# Altium footprint library PCB - CONNECTOR - MOLEX - MOLEX 0768290104.PcbLib: 1 footprints
Each footprint in its own frame and in the unit in brackets; x right, y up, seen from the top. Pads: shape width x height; smd on the part's side, far side on the other; paste and mask are expansions set on the pad; w line width, h text height; cw(c..) or ccw(c..) is an arc to the next point about the centre after c.
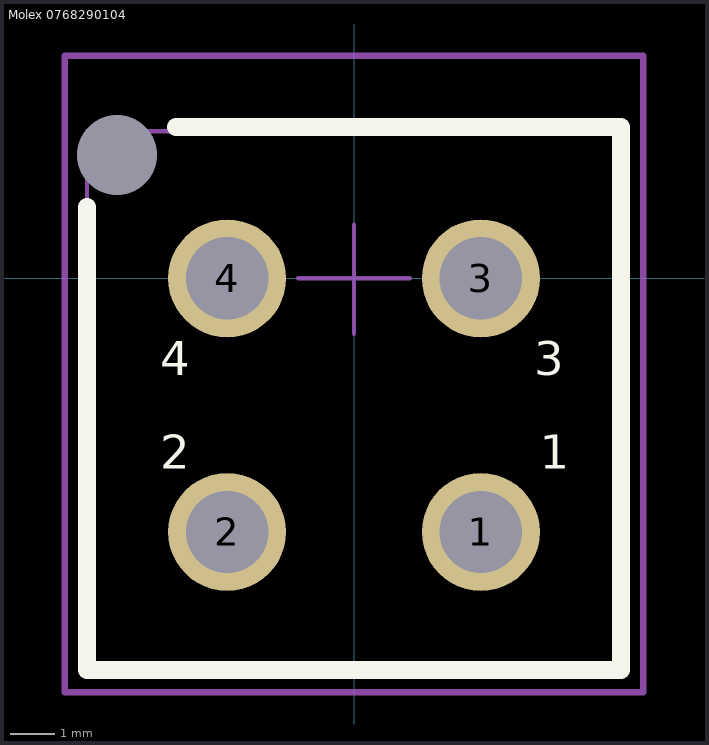
[diagram p0: the footprint, top view; thin cyan lines are the x and y axes]

## Molex 0768290104 [mm]
height 14.8
pads (5):
  round 2.65 hole 1.85 mask+0.1: 1(2.85,-5.7) 2(-2.85,-5.7) 3(2.85,0) 4(-2.85,0)
  round 0 hole 1.8 unplated mask+0.2: HOLE(-5.33,2.77)
Top Overlay:
  lines w0.4: -6,1.6 -6,-8.8 6,-8.8 6,3.4 -4,3.4
  text "4" at -4.354,-2.181 h0.76
  text "2" at -4.354,-4.281 h0.76
  text "3" at 4.046,-2.181 h0.76
  text "1" at 4.173,-4.281 h0.76
Mechanical 13:
  lines w0.1: -6,-8.9 6,-8.9 6,3.302 -6,3.302 -6,-8.9
Mechanical 15 (Mech15):
  lines w0.1: -1.25,0 0,0 ; 0,-1.25 0,0 ; 0,1.2 0,0 ; 1.25,0 0,0
  lines w0.15: -6.5,-9.3 6.5,-9.3 6.5,5 -6.5,5 -6.5,-9.3
3D body "Molex - 1720650204.stp": height 15.7, standoff -2.83, extent -6.025,-9.015 6.025,5.015